# EAGLE library part LT1008 (library Opamps)
Picoamp Input Current, µVolt Offset, Low Noise Operational Amplifier
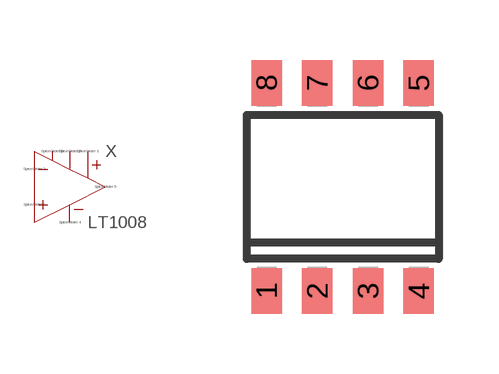
[diagram p2: symbol with the pads of S8; footprint S8]

Designator prefix X

## LT1008  [S8]
1  COMP1  pas
2  IN-  pas
3  IN+  pas
4  V-  pas
6  OUT  pas
7  V+  pas
8  COMP2  pas

## Footprint S8 (pad centres in mm)
8-Lead Plastic Small Outline Narrow .150 Inch Source: http://cds.linear.com/docs/Datasheet/623012fb.pdf
smd 0.762 x 1.143: 1 -1.905,-2.6; 2 -0.635,-2.6; 3 0.635,-2.6; 4 1.905,-2.6; 5 1.905,2.6; 6 0.635,2.6; 7 -0.635,2.6; 8 -1.905,2.6